# EAGLE library part COM-09032 (library COM-09032)
Thumb Joystick Check availability <https://pricing.snapeda.com/parts/COM-09032/SparkFun%20Electronics/view-part?ref=eda>
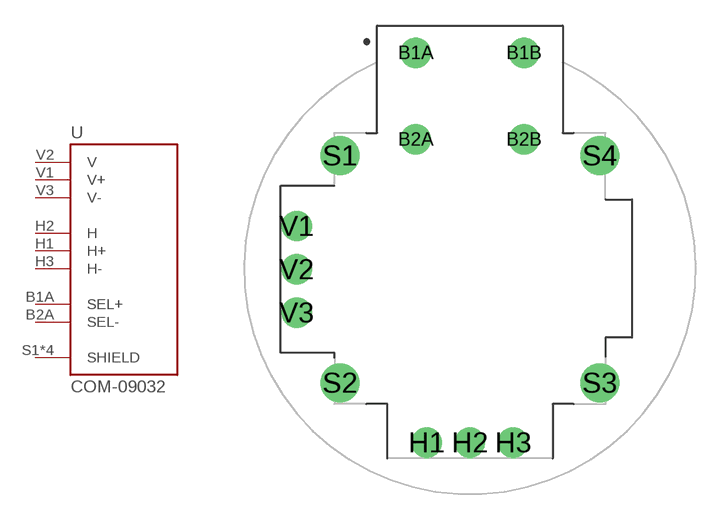
[diagram p0: symbol with the pads of XDCR_COM-09032; footprint XDCR_COM-09032]

Designator prefix U

## COM-09032 (Availability: In Stock; Description: Joystick, 2 - Axis Analog (Resistive) Output; MF: SparkFun Electronics; MP: COM-09032; Package: SparkFun Electronics; Price: None; Purchase-URL: https://pricing.snapeda.com/search/part/COM-09032/?ref=eda)  [XDCR_COM-09032]
B1A  SEL+  pas
B2A  SEL-  pas
H1  H+  pas
H2  H  pas
H3  H-  pas
S1  SHIELD  pas
S2  SHIELD  pas
S3  SHIELD  pas
S4  SHIELD  pas
V1  V+  pas
V2  V  pas
V3  V-  pas

## Footprint XDCR_COM-09032 (pad centres in mm)
drill 0.9 pad 1.778: B1A -3.175,12.7; B1B 3.175,12.7; B2A -3.175,7.62; B2B 3.175,7.62
drill 0.889 pad 1.778: H1 -2.54,-10.16; H2 0,-10.16; H3 2.54,-10.16; V1 -10.16,2.54; V2 -10.16,0; V3 -10.16,-2.54
drill 1.397 pad 2.286: S1 -7.62,6.668; S2 -7.62,-6.668; S3 7.62,-6.668; S4 7.62,6.668